# EAGLE library part BMC050 (library Ampifier)
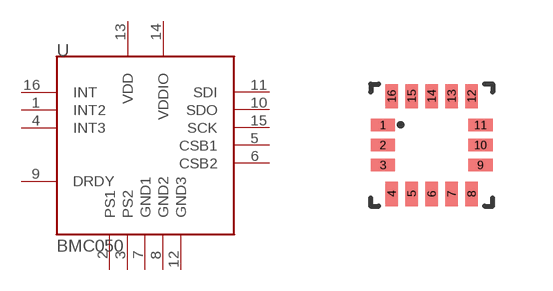
[diagram p0: symbol with the pads of BMC050; footprint BMC050]

Designator prefix -

## BMC050  [BMC050]
1  INT2
2  PS1
3  PS2
4  INT3
5  CSB1
6  CSB2
7  GND1
8  GND2
9  DRDY
10  SDO
11  SDI
12  GND3
13  VDD
14  VDDIO
15  SCK
16  INT

## Footprint BMC050 (pad centres in mm)
smd 0.61 x 0.305: 1 0.305,2.025; 2 0.305,1.525; 3 0.305,1.025; 9 2.745,1.025; 10 2.745,1.525; 11 2.745,2.025
smd 0.305 x 0.61: 4 0.525,0.305; 5 1.025,0.305; 6 1.525,0.305; 7 2.025,0.305; 8 2.525,0.305; 12 2.525,2.745; 13 2.025,2.745; 14 1.525,2.745; 15 1.025,2.745; 16 0.525,2.745